# Altium footprint library USB-C-SMD_TYPE-C-6PIN-2MD-073.PcbLib: 1 footprints
Each footprint in its own frame and in the unit in brackets; x right, y up, seen from the top. Pads: shape width x height; smd on the part's side, far side on the other; paste and mask are expansions set on the pad; w line width, h text height; cw(c..) or ccw(c..) is an arc to the next point about the centre after c.
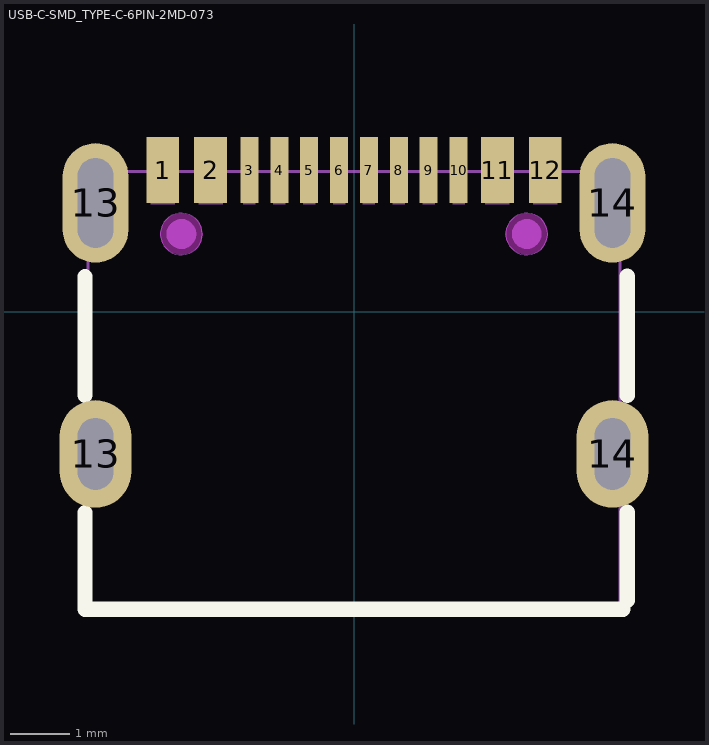
[diagram p0: the footprint, top view; thin cyan lines are the x and y axes]

## USB-C-SMD_TYPE-C-6PIN-2MD-073 [mm]
pads (16):
  rect 0.55x1.1 smd paste-100 mask+0.05: 1(-3.2,2.375) 2(-2.4,2.375) 11(2.4,2.375) 12(3.2,2.375)
  rect 0.3x1.1 smd paste-100 mask+0.05: 3(-1.75,2.375) 4(-1.25,2.375) 5(-0.75,2.375) 6(-0.25,2.375) 7(0.25,2.375) 8(0.75,2.375) 9(1.25,2.375) 10(1.75,2.375)
  oval 1.1x2 / inner round 1.524 / far side round 1.524 hole 0.6 slot 1.5 at 90 deg paste+0 mask+0.05: 13(-4.325,1.825) 14(4.325,1.825)
  oval 1.2x1.8 / inner round 1.524 / far side round 1.524 hole 0.6 slot 1.2 at 90 deg paste+0 mask+0.05: 13(-4.325,-2.375) 14(4.325,-2.375)
Top Overlay:
  lines w0.254: -4.5,-3.356 -4.5,-4.975 4.5,-4.975 ; -4.5,-1.394 -4.5,0.594 ; 4.572,-4.826 4.572,-3.353 ; 4.572,-1.397 4.572,0.597
Top Paste:
  drawing of 16 lines, arcs and shapes, not listed
Keep-Out Layer:
  board cut-out: -2.534,1.305 -2.56,1.435 -2.637,1.551 -2.753,1.628 -2.89,1.655 -3.026,1.628 -3.142,1.551 -3.22,1.435 -3.245,1.305 -3.22,1.175 -3.142,1.059 -3.026,0.982 -2.89,0.954 -2.753,0.982 -2.637,1.059 -2.56,1.175
  board cut-out: 3.246,1.305 3.22,1.435 3.143,1.551 3.027,1.628 2.89,1.655 2.754,1.628 2.638,1.551 2.56,1.435 2.535,1.305 2.56,1.175 2.638,1.059 2.754,0.982 2.89,0.954 3.027,0.982 3.143,1.059 3.22,1.175
Mechanical 1:
  circle w0.005: c-2.89,1.305 r0.35
  circle w0.005: c2.89,1.305 r0.35
Mechanical 6:
  circle w0.25: c-2.89,1.305 r0.125
  circle w0.25: c2.89,1.305 r0.125
Mechanical 15:
  region: -4.385,2.649 -4.404,2.695 -4.45,2.714 -4.496,2.695 -4.515,2.649 -4.496,2.603 -4.45,2.584 -4.404,2.603
  region: -1.85,2.649 -1.65,2.649 -1.65,1.799 -1.85,1.799
  region: -0.85,2.649 -0.65,2.649 -0.65,1.799 -0.85,1.799
  region: -1.35,2.649 -1.15,2.649 -1.15,1.799 -1.35,1.799
  region: -0.35,2.649 -0.15,2.649 -0.15,1.799 -0.35,1.799
  region: 0.15,2.649 0.35,2.649 0.35,1.799 0.15,1.799
  region: 0.65,2.649 0.85,2.649 0.85,1.799 0.65,1.799
  region: 1.15,2.649 1.35,2.649 1.35,1.799 1.15,1.799
  region: 1.65,2.649 1.85,2.649 1.85,1.799 1.65,1.799
  region: -3.4,2.649 -3,2.649 -3,1.799 -3.4,1.799
  region: -2.6,2.649 -2.2,2.649 -2.2,1.799 -2.6,1.799
  region: 2.2,2.649 2.6,2.649 2.6,1.799 2.2,1.799
  region: 3,2.649 3.4,2.649 3.4,1.799 3,1.799
  region: -4.45,2.349 -4.2,2.349 -4.2,1.249 -4.45,1.249
  region: 4.2,2.349 4.45,2.349 4.45,1.249 4.2,1.249
  region: -4.45,-2.025 -4.2,-2.025 -4.2,-2.725 -4.45,-2.725
  region: 4.2,-2.025 4.45,-2.025 4.45,-2.725 4.2,-2.725
  lines w0.051: -4.45,-5.001 -4.45,2.349 4.45,2.349 4.45,-5.001 -4.45,-5.001
Multi-Layer:
  pour cut-out: -2.534,1.305 -2.56,1.435 -2.637,1.551 -2.753,1.628 -2.89,1.655 -3.026,1.628 -3.142,1.551 -3.22,1.435 -3.245,1.305 -3.22,1.175 -3.142,1.059 -3.026,0.982 -2.89,0.954 -2.753,0.982 -2.637,1.059 -2.56,1.175
  pour cut-out: 3.246,1.305 3.22,1.435 3.143,1.551 3.027,1.628 2.89,1.655 2.754,1.628 2.638,1.551 2.56,1.435 2.535,1.305 2.56,1.175 2.638,1.059 2.754,0.982 2.89,0.954 3.027,0.982 3.143,1.059 3.22,1.175